# EAGLE library part PORT_MUXR (library portmuxr_adapter)
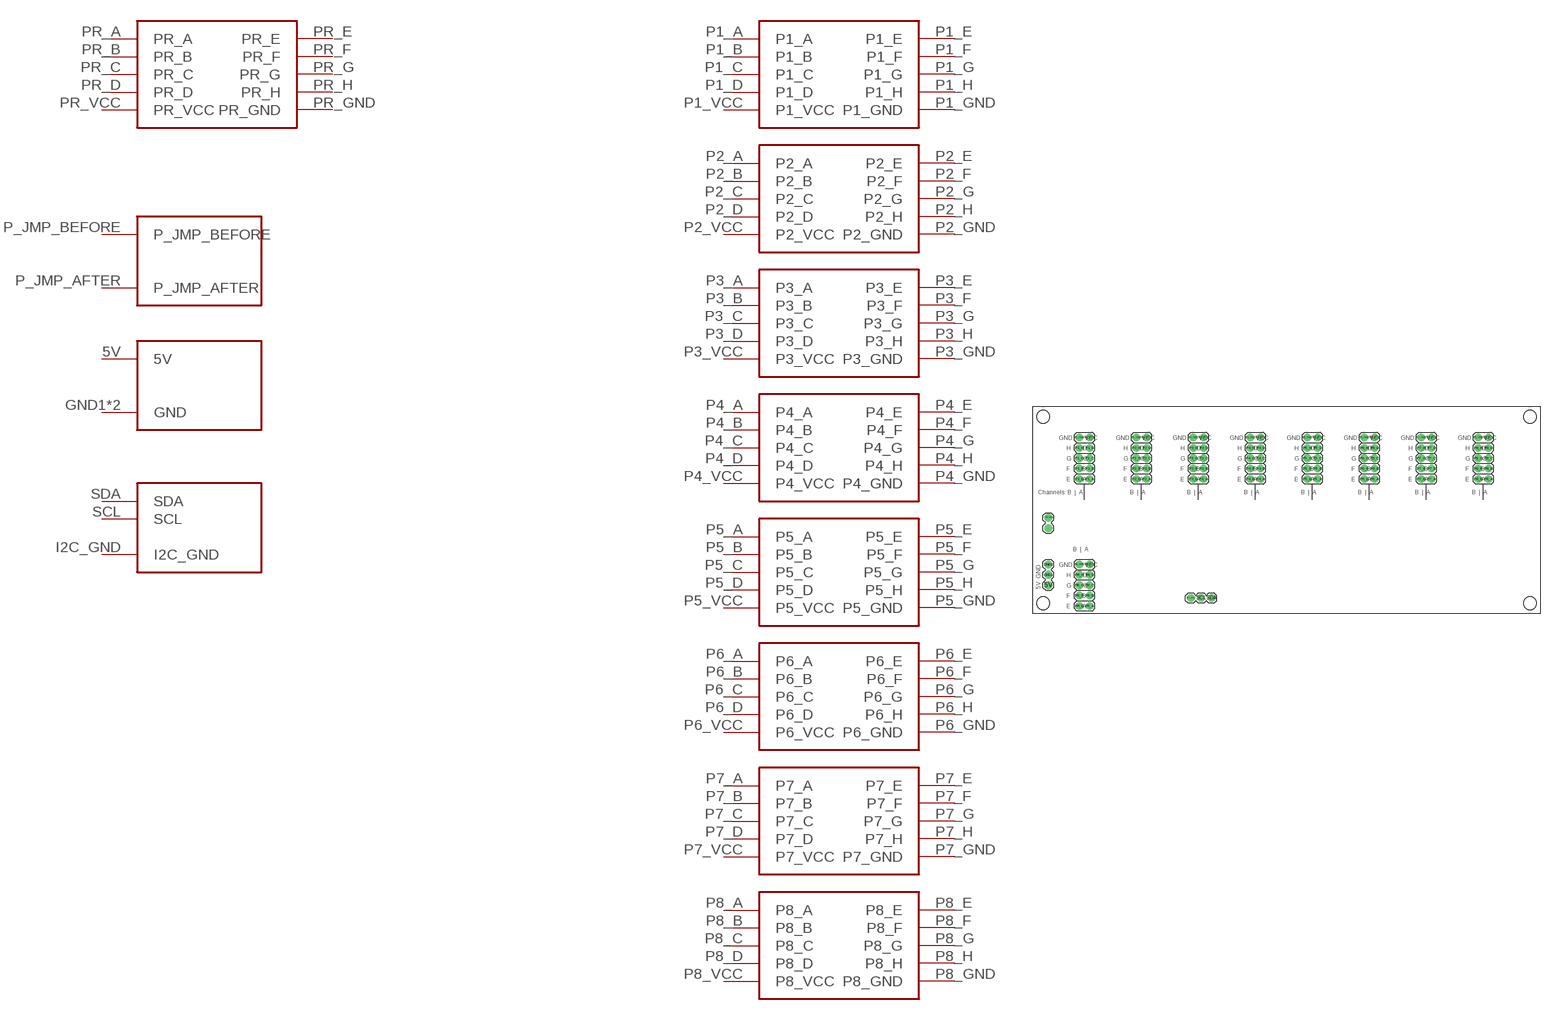
[diagram p0: symbol with the pads of PORT_MUXR; footprint PORT_MUXR]

Designator prefix -

## PORT_MUXR  [PORT_MUXR]
5V  5V
GND1  GND
GND2  GND
I2C_GND  I2C_GND
P1_A  P1_A
P1_B  P1_B
P1_C  P1_C
P1_D  P1_D
P1_E  P1_E
P1_F  P1_F
P1_G  P1_G
P1_GND  P1_GND
P1_H  P1_H
P1_VCC  P1_VCC
P2_A  P2_A
P2_B  P2_B
P2_C  P2_C
P2_D  P2_D
P2_E  P2_E
P2_F  P2_F
P2_G  P2_G
P2_GND  P2_GND
P2_H  P2_H
P2_VCC  P2_VCC
P3_A  P3_A
P3_B  P3_B
P3_C  P3_C
P3_D  P3_D
P3_E  P3_E
P3_F  P3_F
P3_G  P3_G
P3_GND  P3_GND
P3_H  P3_H
P3_VCC  P3_VCC
P4_A  P4_A
P4_B  P4_B
P4_C  P4_C
P4_D  P4_D
P4_E  P4_E
P4_F  P4_F
P4_G  P4_G
P4_GND  P4_GND
P4_H  P4_H
P4_VCC  P4_VCC
P5_A  P5_A
P5_B  P5_B
P5_C  P5_C
P5_D  P5_D
P5_E  P5_E
P5_F  P5_F
P5_G  P5_G
P5_GND  P5_GND
P5_H  P5_H
P5_VCC  P5_VCC
P6_A  P6_A
P6_B  P6_B
P6_C  P6_C
P6_D  P6_D
P6_E  P6_E
P6_F  P6_F
P6_G  P6_G
P6_GND  P6_GND
P6_H  P6_H
P6_VCC  P6_VCC
P7_A  P7_A
P7_B  P7_B
P7_C  P7_C
P7_D  P7_D
P7_E  P7_E
P7_F  P7_F
P7_G  P7_G
P7_GND  P7_GND
P7_H  P7_H
P7_VCC  P7_VCC
P8_A  P8_A
P8_B  P8_B
P8_C  P8_C
P8_D  P8_D
P8_E  P8_E
P8_F  P8_F
P8_G  P8_G
P8_GND  P8_GND
P8_H  P8_H
P8_VCC  P8_VCC
P_JMP_AFTER  P_JMP_AFTER
P_JMP_BEFORE  P_JMP_BEFORE
PR_A  PR_A
PR_B  PR_B
PR_C  PR_C
PR_D  PR_D
PR_E  PR_E
PR_F  PR_F
PR_G  PR_G
PR_GND  PR_GND
PR_H  PR_H
PR_VCC  PR_VCC
SCL  SCL
SDA  SDA

## Footprint PORT_MUXR (pad centres in mm)
drill 1.016 pad 1.88: 5V 3.81,6.985; GND1 3.81,9.525; GND2 3.81,12.065; I2C_GND 38.735,3.81; P1_A 13.97,33.02; P1_B 13.97,35.56; P1_C 13.97,38.1; P1_D 13.97,40.64; P1_E 11.43,33.02; P1_F 11.43,35.56; P1_G 11.43,38.1; P1_GND 11.43,43.18; P1_H 11.43,40.64; P1_VCC 13.97,43.18; P2_A 27.94,33.02; P2_B 27.94,35.56; P2_C 27.94,38.1; P2_D 27.94,40.64; P2_E 25.4,33.02; P2_F 25.4,35.56; P2_G 25.4,38.1; P2_GND 25.4,43.18; P2_H 25.4,40.64; P2_VCC 27.94,43.18; P3_A 41.91,33.02; P3_B 41.91,35.56; P3_C 41.91,38.1; P3_D 41.91,40.64; P3_E 39.37,33.02; P3_F 39.37,35.56; P3_G 39.37,38.1; P3_GND 39.37,43.18; P3_H 39.37,40.64; P3_VCC 41.91,43.18; P4_A 55.88,33.02; P4_B 55.88,35.56; P4_C 55.88,38.1; P4_D 55.88,40.64; P4_E 53.34,33.02; P4_F 53.34,35.56; P4_G 53.34,38.1; P4_GND 53.34,43.18; P4_H 53.34,40.64; P4_VCC 55.88,43.18; P5_A 69.85,33.02; P5_B 69.85,35.56; P5_C 69.85,38.1; P5_D 69.85,40.64; P5_E 67.31,33.02; P5_F 67.31,35.56; P5_G 67.31,38.1; P5_GND 67.31,43.18; P5_H 67.31,40.64; P5_VCC 69.85,43.18; P6_A 83.82,33.02; P6_B 83.82,35.56; P6_C 83.82,38.1; P6_D 83.82,40.64; P6_E 81.28,33.02; P6_F 81.28,35.56; P6_G 81.28,38.1; P6_GND 81.28,43.18; P6_H 81.28,40.64; P6_VCC 83.82,43.18; P7_A 97.79,33.02; P7_B 97.79,35.56; P7_C 97.79,38.1; P7_D 97.79,40.64; P7_E 95.25,33.02; P7_F 95.25,35.56; P7_G 95.25,38.1; P7_GND 95.25,43.18; P7_H 95.25,40.64; P7_VCC 97.79,43.18; P8_A 111.76,33.02; P8_B 111.76,35.56; P8_C 111.76,38.1; P8_D 111.76,40.64; P8_E 109.22,33.02; P8_F 109.22,35.56; P8_G 109.22,38.1; P8_GND 109.22,43.18; P8_H 109.22,40.64; P8_VCC 111.76,43.18; P_JMP_AFTER 3.81,23.495; P_JMP_BEFORE 3.81,20.955; PR_A 13.97,1.905; PR_B 13.97,4.445; PR_C 13.97,6.985; PR_D 13.97,9.525; PR_E 11.43,1.905; PR_F 11.43,4.445; PR_G 11.43,6.985; PR_GND 11.43,12.065; PR_H 11.43,9.525; PR_VCC 13.97,12.065; SCL 41.275,3.81; SDA 43.815,3.81
hole 3.1 at 2.54,2.54
hole 3.1 at 121.92,2.54
hole 3.1 at 121.92,48.26
hole 3.1 at 2.54,48.26